# Altium integrated library Lattice FPGA MachXO2.IntLib: 444 symbols (part 39 of 39)
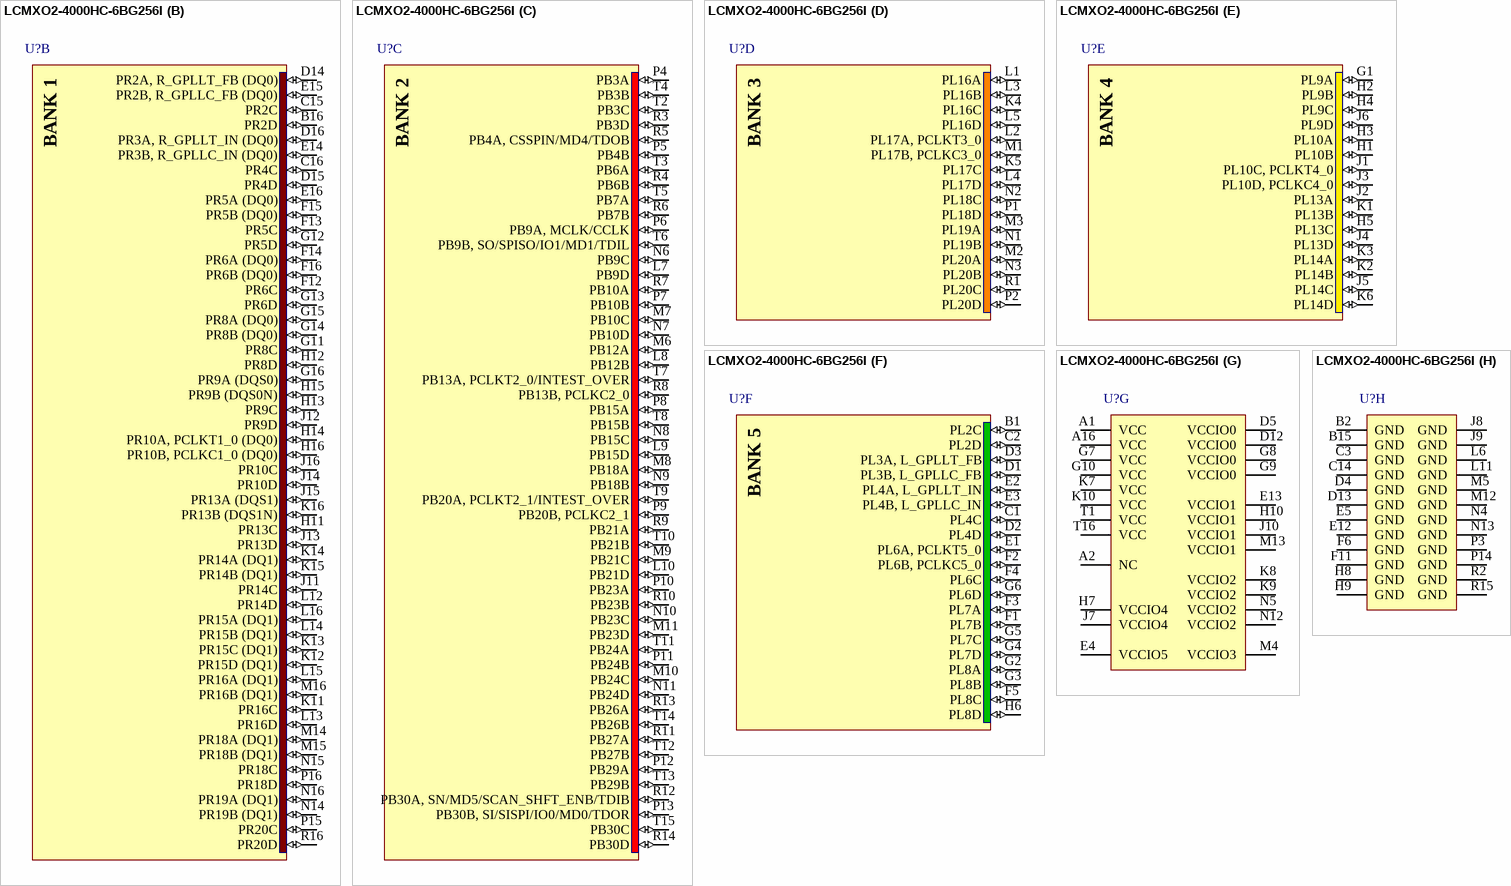
[diagram p442: symbol LCMXO2-4000HC-6BG256I]

## LCMXO2-4000HC-6BG256I
designator U?
MachXO2 High Performance CPLD with 4320 LUTs, Voltage Regulator, 2.5V/3.3V, 256-pin caBGA, Speed Grade-6, Industrial Grade, Halogen Free (RoHS); DatasheetVersion: ver01.5, Aug-2011; PackageVersion: ver02.8, Jul-2011; PackageReference: caBGA256; PackageDescription: 256-Ball caBGA Package, 14 x 14 mm Body, 0.8 mm Pitch; Code_JEDEC: MO-275-JJAB-2; ComponentLink1Description: Manufacturer URL; ComponentLink1URL: http://www.latticesemi.com/; ComponentLink2Description: Datasheet; ComponentLink2URL: http://www.latticesemi.com/documents/DS1035.pdf; ComponentLink3Description: Package Specification; ComponentLink3URL: http://www.latticesemi.com/lit/docs/package/pkg.pdf
footprint caBGA256 (BGA, 256-Leads, Body 14x14mm, Pitch 0.8mm, Nominal Pad Dia. 0.4mm, Lattice Recommended)
part A pins: A3 PT12A (io), A4 PT10A (io), A5 PT11A (io), A6 PT13D, TDI/MD7 (io), A7 PT15C, TCK/TEST_CLK (io), A8 PT18B, PCLKC0_1 (io), A9 PT20C, SCL/IO2/MD2/ATB_SENSE/PCLKT0_0 (io), A10 PT21B (io), A11 PT24A (io), A12 PT25B (io), A13 PT28C, INITN (io), A14 PT26B (io), A15 PT28B (io), B3 PT9C (io), B4 PT12B (io), B5 PT9B (io), B6 PT11B (io), B7 PT14A (io), B8 PT15D, TMS (io), B9 PT21A (io), B10 PT23D, PROGRAMN (io), B11 PT25A (io), B12 PT27B (io), B13 PT26A (io), B14 PT28A (io), C4 PT9A (io), C5 PT10B (io), C6 PT13C, TDO (io), C7 PT14B (io), C8 PT18A, PCLKT0_1 (io), C9 PT20D, SDA/IO3/MD3/ATB_FORCE/PCLKC0_0/TDOT (io), C10 PT23C, JTAGENB/MD6/TDIR (io), C11 PT24B (io), C12 PT27A (io), C13 PT28D, DONE (io), D6 PT13A (io), D7 PT14D (io), D8 PT19A (io), D9 PT20B (io), D10 PT23A (io), D11 PT24D (io), E6 PT14C (io), E7 PT13B (io), E8 PT15B (io), E9 PT19B (io), E10 PT23B (io), E11 PT22B (io), F7 PT15A (io), F8 PT20A (io), F9 PT22A (io), F10 PT24C (io)
part B pins: B16 PR2D (io), C15 PR2C (io), C16 PR4C (io), D14 PR2A, R_GPLLT_FB (DQ0) (io), D15 PR4D (io), D16 PR3A, R_GPLLT_IN (DQ0) (io), E14 PR3B, R_GPLLC_IN (DQ0) (io), E15 PR2B, R_GPLLC_FB (DQ0) (io), E16 PR5A (DQ0) (io), F12 PR6C (io), F13 PR5C (io), F14 PR6A (DQ0) (io), F15 PR5B (DQ0) (io), F16 PR6B (DQ0) (io), G11 PR8C (io), G12 PR5D (io), G13 PR6D (io), G14 PR8B (DQ0) (io), G15 PR8A (DQ0) (io), G16 PR9A (DQS0) (io), H11 PR13C (io), H12 PR8D (io), H13 PR9C (io), H14 PR10A, PCLKT1_0 (DQ0) (io), H15 PR9B (DQS0N) (io), H16 PR10B, PCLKC1_0 (DQ0) (io), J11 PR14C (io), J12 PR9D (io), J13 PR13D (io), J14 PR10D (io), J15 PR13A (DQS1) (io), J16 PR10C (io), K11 PR16C (io), K12 PR15D (DQ1) (io), K13 PR15C (DQ1) (io), K14 PR14A (DQ1) (io), K15 PR14B (DQ1) (io), K16 PR13B (DQS1N) (io), L12 PR14D (io), L13 PR16D (io), L14 PR15B (DQ1) (io), L15 PR16A (DQ1) (io), L16 PR15A (DQ1) (io), M14 PR18A (DQ1) (io), M15 PR18B (DQ1) (io), M16 PR16B (DQ1) (io), N14 PR19B (DQ1) (io), N15 PR18C (io), N16 PR19A (DQ1) (io), P15 PR20C (io), P16 PR18D (io), R16 PR20D (io)
part C pins: L7 PB9D (io), L8 PB12B (io), L9 PB15D (io), L10 PB21D (io), M6 PB12A (io), M7 PB10C (io), M8 PB18A (io), M9 PB21C (io), M10 PB24C (io), M11 PB23D (io), N6 PB9C (io), N7 PB10D (io), N8 PB15C (io), N9 PB18B (io), N10 PB23C (io), N11 PB24D (io), P4 PB3A (io), P5 PB4B (io), P6 PB9A, MCLK/CCLK (io), P7 PB10B (io), P8 PB15A (io), P9 PB20B, PCLKC2_1 (io), P10 PB23A (io), P11 PB24B (io), P12 PB29A (io), P13 PB30B, SI/SISPI/IO0/MD0/TDOR (io), R3 PB3D (io), R4 PB6B (io), R5 PB4A, CSSPIN/MD4/TDOB (io), R6 PB7B (io), R7 PB10A (io), R8 PB13B, PCLKC2_0 (io), R9 PB21A (io), R10 PB23B (io), R11 PB27A (io), R12 PB30A, SN/MD5/SCAN_SHFT_ENB/TDIB (io), R13 PB26A (io), R14 PB30D (io), T2 PB3C (io), T3 PB6A (io), T4 PB3B (io), T5 PB7A (io), T6 PB9B, SO/SPISO/IO1/MD1/TDIL (io), T7 PB13A, PCLKT2_0/INTEST_OVER (io), T8 PB15B (io), T9 PB20A, PCLKT2_1/INTEST_OVER (io), T10 PB21B (io), T11 PB24A (io), T12 PB27B (io), T13 PB29B (io), T14 PB26B (io), T15 PB30C (io)
part D pins: K4 PL16C (io), K5 PL17C (io), L1 PL16A (io), L2 PL17A, PCLKT3_0 (io), L3 PL16B (io), L4 PL17D (io), L5 PL16D (io), M1 PL17B, PCLKC3_0 (io), M2 PL20A (io), M3 PL19A (io), N1 PL19B (io), N2 PL18C (io), N3 PL20B (io), P1 PL18D (io), P2 PL20D (io), R1 PL20C (io)
part E pins: G1 PL9A (io), H1 PL10B (io), H2 PL9B (io), H3 PL10A (io), H4 PL9C (io), H5 PL13C (io), J1 PL10C, PCLKT4_0 (io), J2 PL13A (io), J3 PL10D, PCLKC4_0 (io), J4 PL13D (io), J5 PL14C (io), J6 PL9D (io), K1 PL13B (io), K2 PL14B (io), K3 PL14A (io), K6 PL14D (io)
part F pins: B1 PL2C (io), C1 PL4C (io), C2 PL2D (io), D1 PL3B, L_GPLLC_FB (io), D2 PL4D (io), D3 PL3A, L_GPLLT_FB (io), E1 PL6A, PCLKT5_0 (io), E2 PL4A, L_GPLLT_IN (io), E3 PL4B, L_GPLLC_IN (io), F1 PL7B (io), F2 PL6B, PCLKC5_0 (io), F3 PL7A (io), F4 PL6C (io), F5 PL8C (io), G2 PL8A (io), G3 PL8B (io), G4 PL7D (io), G5 PL7C (io), G6 PL6D (io), H6 PL8D (io)
part G pins: A1 VCC (power), A2 NC, A16 VCC (power), D5 VCCIO0 (power), D12 VCCIO0 (power), E4 VCCIO5 (power), E13 VCCIO1 (power), G7 VCC (power), G8 VCCIO0 (power), G9 VCCIO0 (power), G10 VCC (power), H7 VCCIO4 (power), H10 VCCIO1 (power), J7 VCCIO4 (power), J10 VCCIO1 (power), K7 VCC (power), K8 VCCIO2 (power), K9 VCCIO2 (power), K10 VCC (power), M4 VCCIO3 (power), M13 VCCIO1 (power), N5 VCCIO2 (power), N12 VCCIO2 (power), T1 VCC (power), T16 VCC (power)
part H pins: B2 GND (power), B15 GND (power), C3 GND (power), C14 GND (power), D4 GND (power), D13 GND (power), E5 GND (power), E12 GND (power), F6 GND (power), F11 GND (power), H8 GND (power), H9 GND (power), J8 GND (power), J9 GND (power), L6 GND (power), L11 GND (power), M5 GND (power), M12 GND (power), N4 GND (power), N13 GND (power), P3 GND (power), P14 GND (power), R2 GND (power), R15 GND (power)
part A text: BANK 0
part B text: BANK 1
part C text: BANK 2
part D text: BANK 3
part E text: BANK 4
part F text: BANK 5

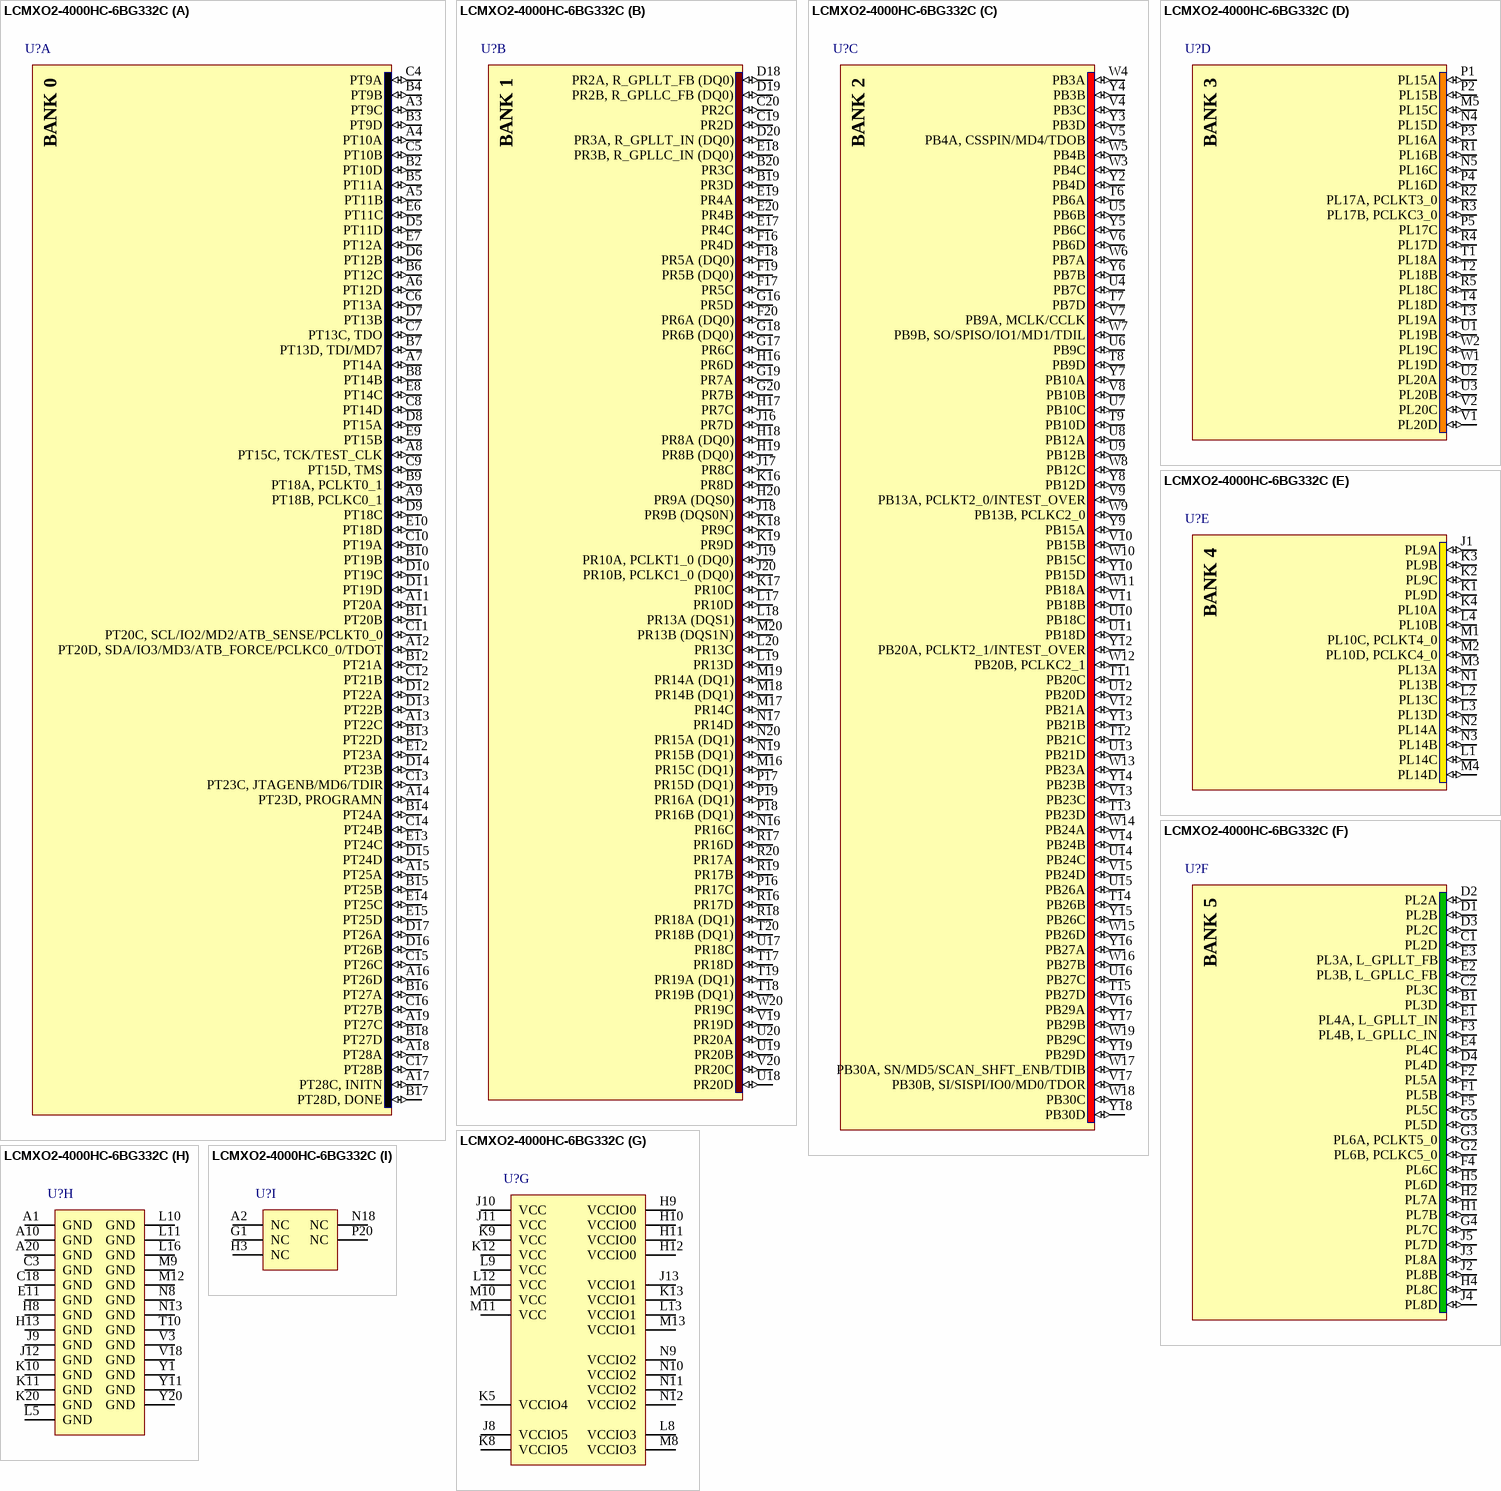
[diagram p160: symbol LCMXO2-4000HC-6BG332C]